# Altium footprint library PuttPilot.PcbLib: 34 footprints (part 2 of 3)
Each footprint in its own frame and in the unit in brackets; x right, y up, seen from the top. Pads: shape width x height; smd on the part's side, far side on the other; paste and mask are expansions set on the pad; w line width, h text height; cw(c..) or ccw(c..) is an arc to the next point about the centre after c.
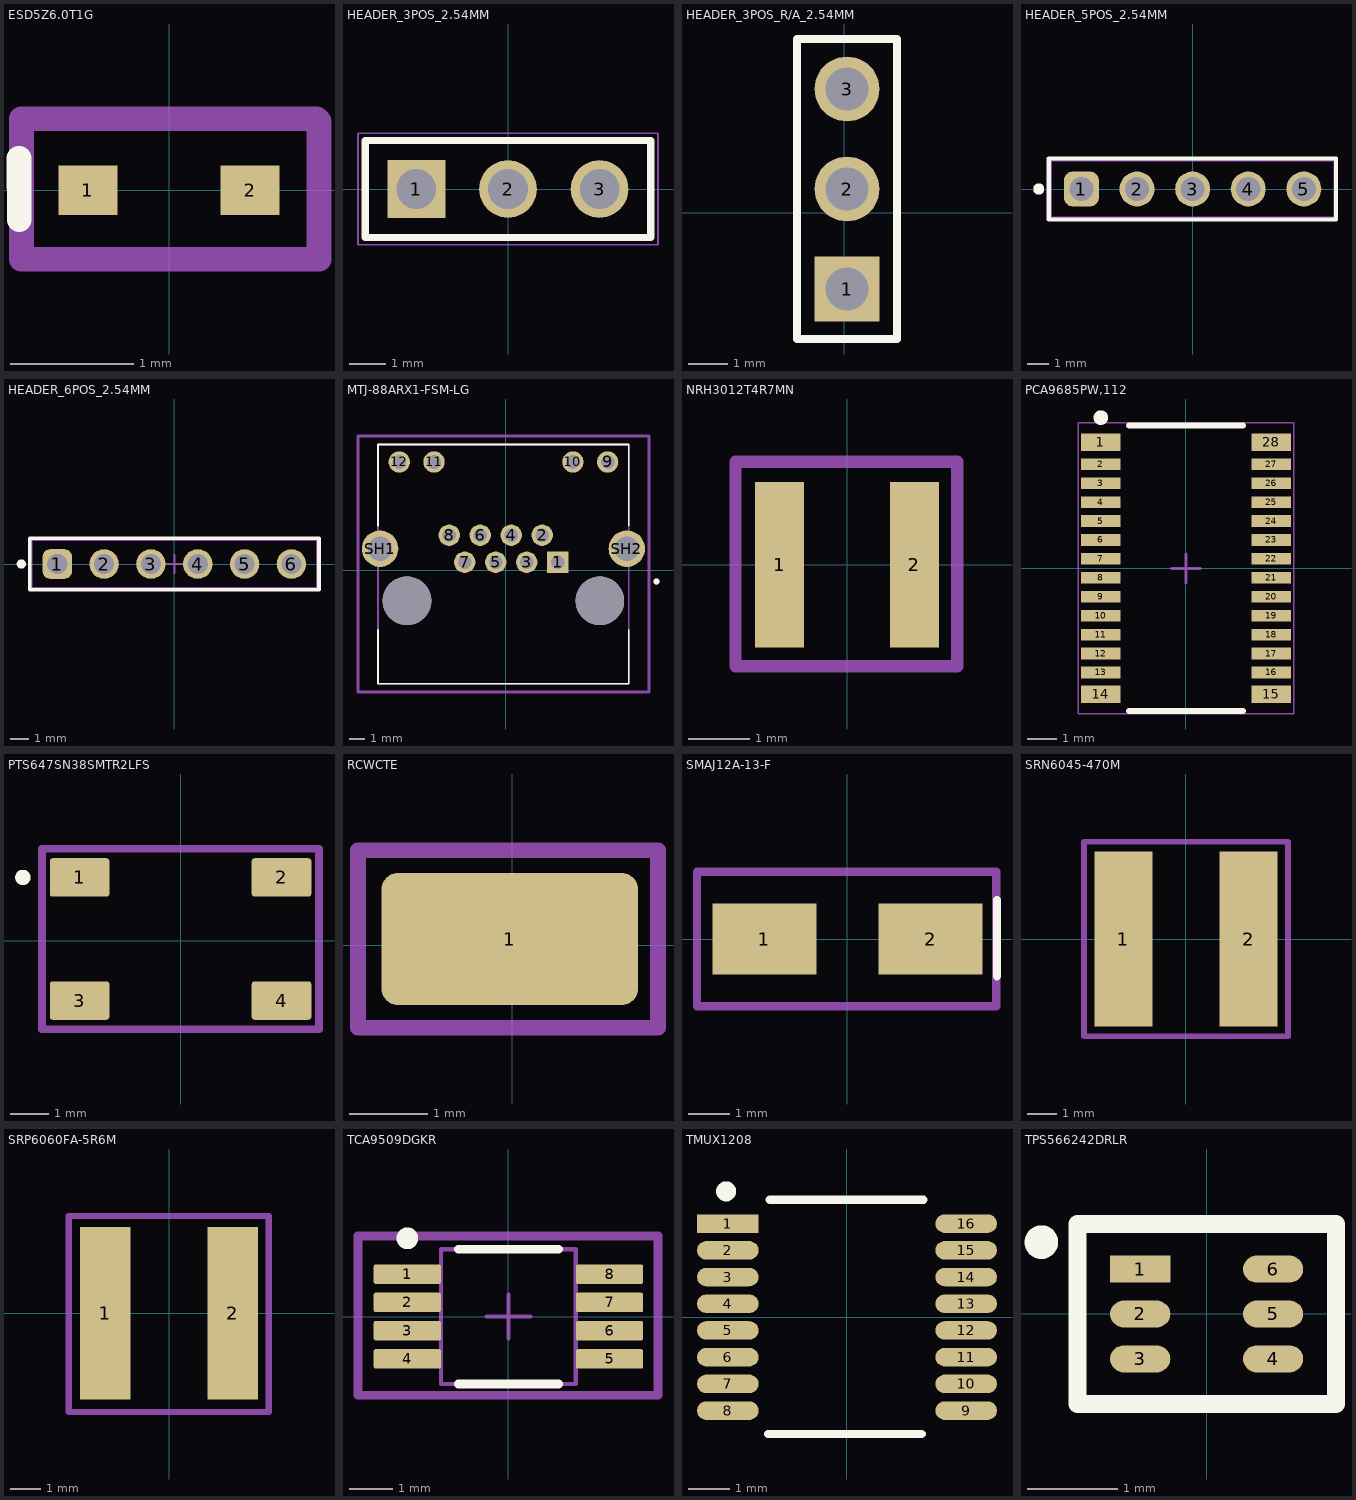
[diagram p1: the footprints below, top view; thin cyan lines are the x and y axes]

## ESD5Z6.0T1G [mm]
pads (2):
  rect 0.48x0.4 smd: 1(-0.66,0) 2(0.66,0)
Top Overlay:
  lines w0.2: -1.22,0.26 -1.218,-0.238
Top Designator:
  text ".Designator" at -0.326,-0.658 h1.52
Top Courtyard:
  lines w0.2: 1.2,0.58 -1.2,0.58 -1.2,-0.56 1.22,-0.56 1.22,0.56
3D body "SOD-523_0P9X1P3_ONS.step": height 0.46, standoff 0, extent -0.851,-0.444 0.851,0.444

## HEADER_3POS_2.54MM [mm]
pads (3):
  rect 1.6x1.6 hole 1.1: 1(-2.54,0)
  round 1.6 hole 1.1: 2(0,0) 3(2.54,0)
Top Overlay:
  lines w0.2: -3.96,-1.345 3.96,-1.345 3.96,1.345 -3.96,1.345 -3.96,-1.345
Top Courtyard:
  lines w0.05: -0.5,0 0.5,0 ; 0,-0.5 0,0.5 ; -4.16,-1.545 -4.16,1.545 4.16,1.545 4.16,-1.545 -4.16,-1.545
3D body "61300311121.stp": height 8.57, standoff -2.97, extent -3.81,-1.27 3.81,1.27

## HEADER_3POS_R/A_2.54MM [mm]
pads (3):
  rect 1.65x1.65 / inner round 1.65 / far side rect 1.65x1.65 hole 1.1: 1(0.072,-1.931)
  round 1.65 hole 1.1: 2(0.072,0.609) 3(0.072,3.149)
Top Overlay:
  lines w0.2: -1.198,-3.201 1.342,-3.201 1.342,4.419 -1.198,4.419 -1.198,-3.201
3D body "TSW-101-08-G-T-RA.stp": height 8.1, standoff -2.29, extent -1.198,-2.251 1.342,13.049

## HEADER_5POS_2.54MM [mm]
pads (5):
  rrect50% 1.6x1.6 hole 1.1 mask+0.1: 1(-5.08,0)
  round 1.6 hole 1.1 mask+0.1: 2(-2.54,0) 3(0,0) 4(2.54,0) 5(5.08,0)
Top Overlay:
  circle w0.25: c-7.03,0 r0.125
  lines w0.2: -6.575,-1.395 6.535,-1.395 6.55,-1.38 6.55,1.395 -6.575,1.395 -6.575,-1.395
Top Component Outline:
  lines w0.1: -0.47,0.04 0.53,0.04 ; 0.03,-0.46 0.03,0.54
  lines w0.2: -6.525,-1.345 6.53,-1.345 6.53,1.345 -6.525,1.345 -6.525,-1.345
Top Designator:
  text ".Designator" at 1.27,0.613 h1
Top Courtyard:
  lines w0.2: -6.525,-1.345 6.53,-1.345 6.53,1.345 -6.525,1.345 -6.525,-1.345
3D body "PRPC005SFAN-RC.STEP": height 10.62, standoff -3.05, extent -6.38,-1.18 6.32,1.36

## HEADER_6POS_2.54MM [mm]
pads (6):
  rrect50% 1.6x1.6 hole 1.1 mask+0.1: 1(-6.35,0)
  round 1.6 hole 1.1 mask+0.1: 2(-3.81,0) 3(-1.27,0) 4(1.27,0) 5(3.81,0) 6(6.35,0)
Top Overlay:
  circle w0.25: c-8.3,0 r0.125
  lines w0.2: -7.845,-1.395 -7.845,1.395 7.845,1.395 7.845,-1.395 -7.845,-1.395
Top Component Outline:
  lines w0.1: -0.5,0 0.5,0 ; 0,-0.5 0,0.5
  lines w0.2: -7.795,-1.345 7.795,-1.345 7.795,1.345 -7.795,1.345 -7.795,-1.345
Top Designator:
  text ".Designator" at 0,0.613 h1
Top Courtyard:
  lines w0.2: -7.795,-1.345 7.795,-1.345 7.795,1.345 -7.795,1.345 -7.795,-1.345
3D body "61300611121.stp": height 8.57, standoff -2.97, extent -7.62,-1.27 7.62,1.27

## MTJ-88ARX1-FSM-LG [mm]
pads (16):
  rect 1.408x1.408 / inner round 1.408 / far side rect 1.408x1.408 hole 0.9: 1(3.403,0.537)
  round 1.408 hole 0.9: 2(2.383,2.317) 3(1.363,0.537) 4(0.343,2.317) 5(-0.677,0.537) 6(-1.697,2.317) 7(-2.717,0.537) 8(-3.737,2.317) 9(6.693,7.137) 10(4.403,7.137) 11(-4.737,7.137) 12(-7.027,7.137)
  round 2.4 hole 1.6: SH1(-8.292,1.427) SH2(7.958,1.427)
  round 3.2 hole 3.2 unplated: ""(-6.517,-2.003) ""(6.183,-2.003)
Top Overlay:
  circle w0.2: c9.908,-0.733 r0.1
  lines w0.127: -8.417,-3.923 -8.417,-7.463 8.083,-7.463 8.083,-3.923 ; -8.417,2.947 -8.417,8.287 8.083,8.287 8.083,2.947
Top 3D Body:
  circle w0.2: c9.908,-0.733 r0.1
  lines w0.127: -8.417,-7.463 8.083,-7.463 8.083,8.287 -8.417,8.287 -8.417,-7.463
Top Courtyard:
  lines w0.2: -9.742,-8 9.408,-8 9.408,8.84 -9.742,8.84 -9.742,-8
3D body "step_temp.STEP": height 13.21, standoff -3.73, extent -8.572,-7.664 8.238,8.484

## NRH3012T4R7MN [mm]
pads (2):
  rect 0.8x2.7 smd: 1(-1.1,0) 2(1.1,0)
Top Designator:
  text ".Designator" at -0.706,-0.538 h1.52
Top Courtyard:
  lines w0.2: -1.82,-1.66 1.8,-1.66 1.8,1.68 -1.82,1.68 -1.82,-1.66
3D body "IND_TAIYO_NRH3012_TAY.step": height 1.19, standoff 0, extent -1.549,-1.552 1.549,1.552

## PCA9685PW,112 [mm]
pads (28):
  rect 1.35x0.6 smd: 1(-2.924,4.326) 14(-2.924,-4.324) 15(2.926,-4.324) 28(2.926,4.326)
  rect 1.35x0.4 smd: 2(-2.924,3.576) 3(-2.924,2.926) 4(-2.924,2.276) 5(-2.924,1.626) 6(-2.924,0.976) 7(-2.924,0.326) 8(-2.924,-0.324) 9(-2.924,-0.974) 10(-2.924,-1.624) 11(-2.924,-2.274) 12(-2.924,-2.924) 13(-2.924,-3.574) 16(2.926,-3.574) 17(2.926,-2.924) 18(2.926,-2.274) 19(2.926,-1.624) 20(2.926,-0.974) 21(2.926,-0.324) 22(2.926,0.326) 23(2.926,0.976) 24(2.926,1.626) 25(2.926,2.276) 26(2.926,2.926) 27(2.926,3.576)
Top Overlay:
  circle w0.25: c-2.924,5.176 r0.125
  lines w0.2: -1.959,-4.899 1.96,-4.899 ; -1.959,4.901 1.96,4.901
Top Courtyard:
  lines w0.05: -3.699,-4.999 3.701,-4.999 3.701,5.001 -3.699,5.001 -3.699,-4.999
  lines w0.1: -0.499,0.001 0.501,0.001 ; 0.001,-0.499 0.001,0.501
3D body "SOT361-1_NXP.step": height 1.09, standoff 0, extent -3.302,-4.902 3.302,4.902

## PTS647SN38SMTR2LFS [mm]
pads (4):
  rrect15% 1.55x1 smd mask+0.1: 1(-2.625,1.64) 2(2.625,1.64) 3(-2.625,-1.56) 4(2.625,-1.56)
Top Overlay:
  lines w0.2: -4.1,1.54 cw(c-4.1,1.64) -4.1,1.74 cw(c-4.1,1.64) -4.1,1.54
Top Component Outline:
  lines w0.2: -3.6,-2.31 3.6,-2.31 3.6,2.39 -3.6,2.39 -3.6,-2.31
Top Designator:
  text ".Designator" at 0,0.228 h1
Top Courtyard:
  lines w0.2: -3.6,-2.31 -3.6,2.39 3.6,2.39 3.6,-2.31 -3.6,-2.31
3D body "PTS647SN38SMTR2LFS.stp": height 3.8, standoff 0, extent -3.25,-2.21 3.25,2.29

## RCWCTE [mm]
pads (1):
  rrect25% 3.3x1.7 smd: 1(-0.03,0.08)
Top Designator:
  text ".Designator" at -0.919,-0.428 h1.52
Top Courtyard:
  lines w0.2: -1.98,-1.063 -1.98,1.223 1.875,1.223 1.875,-1.063 -1.98,-1.063
3D body "RCWCTE--3DModel-STEP-56544.STEP": height 2.01, standoff 0, extent -1.63,-0.72 1.57,0.88

## SMAJ12A-13-F [mm]
pads (2):
  rect 2.5x1.7 smd: 1(-2,0) 2(2,0)
Top Overlay:
  lines w0.2: 3.6,-0.9 3.6,0.94
Top Designator:
  text ".Designator" at -1.126,-0.478 h1.52
Top Courtyard:
  lines w0.2: -3.62,-1.62 3.58,-1.62 3.58,1.62 -3.62,1.62 -3.62,-1.62
3D body "SMA_DIO.step": height 2.35, standoff 0, extent -2.795,-1.46 2.795,1.46

## SRN6045-470M [mm]
pads (2):
  rect 2x6 smd: 1(-2.15,0) 2(2.15,0)
Top Designator:
  text ".Designator" at -1.386,-0.478 h1.52
Top Courtyard:
  lines w0.2: -3.5,-3.34 -3.5,3.34 3.5,3.34 3.5,-3.34 -3.5,-3.34
3D body "srn6045.stp": height 4.5, standoff 0, extent -3,-2.98 3,3.02

## SRP6060FA-5R6M [mm]
pads (2):
  rect 1.65x5.6 smd: 1(-2.075,0) 2(2.075,0)
Top Designator:
  text ".Designator" at -1.206,-0.518 h1.52
Top Courtyard:
  lines w0.2: -3.26,-3.2 -3.26,3.16 3.24,3.16 3.24,-3.2 -3.26,-3.2
3D body "SRP6060FA.stp": height 5.91, standoff 0.05, extent -3.2,-3.3 3.2,3.3

## TCA9509DGKR [mm]
pads (8):
  rrect22% 1.55x0.45 smd mask+0.075: 1(-2.325,0.982) 2(-2.325,0.332) 3(-2.325,-0.318) 4(-2.325,-0.968) 5(2.325,-0.968) 6(2.325,-0.318) 7(2.325,0.332) 8(2.325,0.982)
Top Overlay:
  circle w0.25: c-2.325,1.807 r0.125
  lines w0.2: -1.15,-1.543 1.15,-1.543 ; -1.15,1.557 1.15,1.557
M1 Board Outline:
  text ".Designator" at -1.397,-0.247 h0.7
Top 3D Body:
  lines w0.1: -1.55,-1.543 1.55,-1.543 1.55,1.557 -1.55,1.557 -1.55,-1.543
Top Courtyard:
  lines w0.1: -0.5,0.007 0.5,0.007 ; 0,-0.493 0,0.507
  lines w0.2: -3.46,-1.8 3.44,-1.8 3.44,1.86 -3.46,1.86 -3.46,-1.8
3D body "MUY08A_ASM.stp": height 0.94, standoff -0.02, extent -2.451,-1.492 2.451,1.506

## TMUX1208 [mm]
pads (16):
  rect 1.5x0.45 smd mask+0.075: 1(-2.9,2.275)
  oval 1.5x0.45 smd mask+0.075: 2(-2.9,1.625) 3(-2.9,0.975) 4(-2.9,0.325) 5(-2.9,-0.325) 6(-2.9,-0.975) 7(-2.9,-1.625) 8(-2.9,-2.275) 9(2.9,-2.275) 10(2.9,-1.625) 11(2.9,-0.975) 12(2.9,-0.325) 13(2.9,0.325) 14(2.9,0.975) 15(2.9,1.625) 16(2.9,2.275)
Top Overlay:
  circle w0.254: c-2.94,3.06 r0.117
  lines w0.2: -1.92,-2.845 1.82,-2.845 ; -1.88,2.855 1.86,2.855
Top Designator:
  text ".Designator" at -0.806,-0.538 h1.52
3D body "IC_TEXAS_INSTRUMENTS_SN74HC165PWR_eec.STEP": height 1.2, standoff 0, extent -3.2,-2.5 3.2,2.5

## TPS566242DRLR [mm]
pads (6):
  rect 0.67x0.3 smd mask+0.075: 1(-0.74,0.5)
  oval 0.67x0.3 smd mask+0.075: 2(-0.74,0) 3(-0.74,-0.5) 4(0.74,-0.5) 5(0.74,0) 6(0.74,0.5)
Top Overlay:
  circle w0.254: c-1.84,0.8 r0.06
  lines w0.2: -1.44,-1 1.44,-1 1.44,1 -1.44,1 -1.44,-1
Top Designator:
  text ".Designator" at -0.466,-0.438 h1.52
3D body "DRL0006A.stp": height 0.6, standoff 0, extent -0.8,-0.782 0.8,0.782